# Altium footprint library SO.PcbLib: 3 footprints
Each footprint in its own frame and in the unit in brackets; x right, y up, seen from the top. Pads: shape width x height; smd on the part's side, far side on the other; paste and mask are expansions set on the pad; w line width, h text height; cw(c..) or ccw(c..) is an arc to the next point about the centre after c.
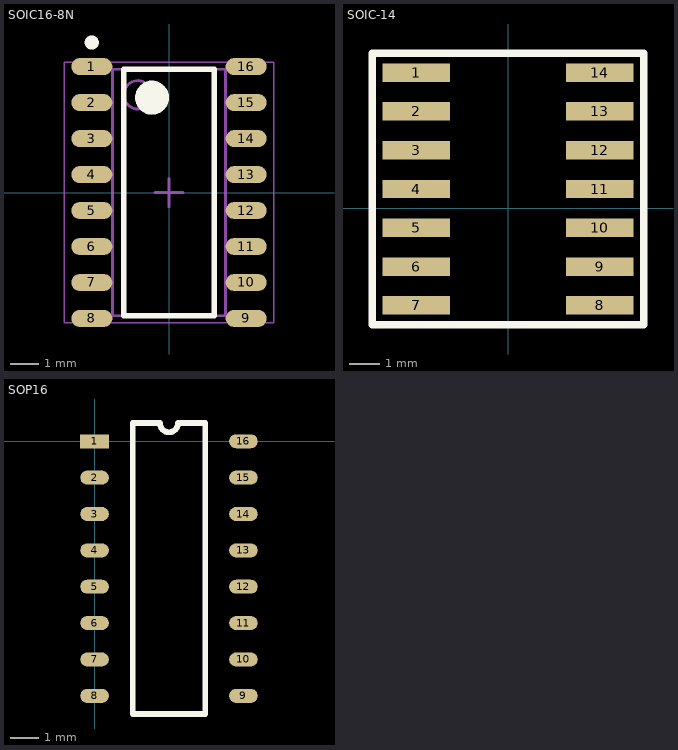
[diagram p0: the footprints below, top view; thin cyan lines are the x and y axes]

## SOIC16-8N [mm]
height 1.75
pads (16):
  oval 1.45x0.6 smd: 1(-2.725,4.445) 2(-2.725,3.175) 3(-2.725,1.905) 4(-2.725,0.635) 5(-2.725,-0.635) 6(-2.725,-1.905) 7(-2.725,-3.175) 8(-2.725,-4.445) 9(2.725,-4.445) 10(2.725,-3.175) 11(2.725,-1.905) 12(2.725,-0.635) 13(2.725,0.635) 14(2.725,1.905) 15(2.725,3.175) 16(2.725,4.445)
Top Overlay:
  circle w0.25: c-2.725,5.295 r0.125
  circle w0.6: c-0.6,3.35 r0.3
  lines w0.2: -1.6,-4.35 -1.6,4.35 1.6,4.35 1.6,-4.35 -1.6,-4.35
Mechanical 13:
  circle w0.1: c-1.1,3.45 r0.5
  lines w0.1: -2,-4.35 -2,4.35 2,4.35 2,-4.35 -2,-4.35
Mechanical 15:
  lines w0.05: -3.7,-4.6 -3.7,4.6 3.7,4.6 3.7,-4.6 -3.7,-4.6
  lines w0.1: -0.5,0 0.5,0 ; 0,-0.5 0,0.5

## SOIC-14 [mm]
pads (14):
  rect 2.2x0.6 smd: 1(-3,4.445) 2(-3,3.175) 3(-3,1.905) 4(-3,0.635) 5(-3,-0.635) 6(-3,-1.905) 7(-3,-3.175) 8(3,-3.175) 9(3,-1.905) 10(3,-0.635) 11(3,0.635) 12(3,1.905) 13(3,3.175) 14(3,4.445)
Top Overlay:
  lines w0.254: -4.445,-3.81 4.445,-3.81 4.445,5.08 -4.445,5.08 -4.445,-3.81
3D body "SOIC14-150-1.step": height 1.75, standoff 0, extent -2.9,-3.63 2.9,4.9

## SOP16 [mm]
pads (16):
  rect 1x0.49 smd: 1(0,0)
  oval 1x0.49 smd: 2(0,-1.27) 3(0,-2.54) 4(0,-3.81) 5(0,-5.08) 6(0,-6.35) 7(0,-7.62) 8(0,-8.89) 9(5.2,-8.89) 10(5.2,-7.62) 11(5.2,-6.35) 12(5.2,-5.08) 13(5.2,-3.81) 14(5.2,-2.54) 15(5.2,-1.27) 16(5.2,0)
Top Overlay:
  lines w0.2: 1.335,-9.525 1.335,0.635 2.282,0.635 ccw(c2.6,0.635) 2.917,0.635 3.865,0.635 3.865,-9.525 1.335,-9.525